# Altium integrated library TI Power Management Special Function.IntLib: 97 symbols (part 4 of 7)
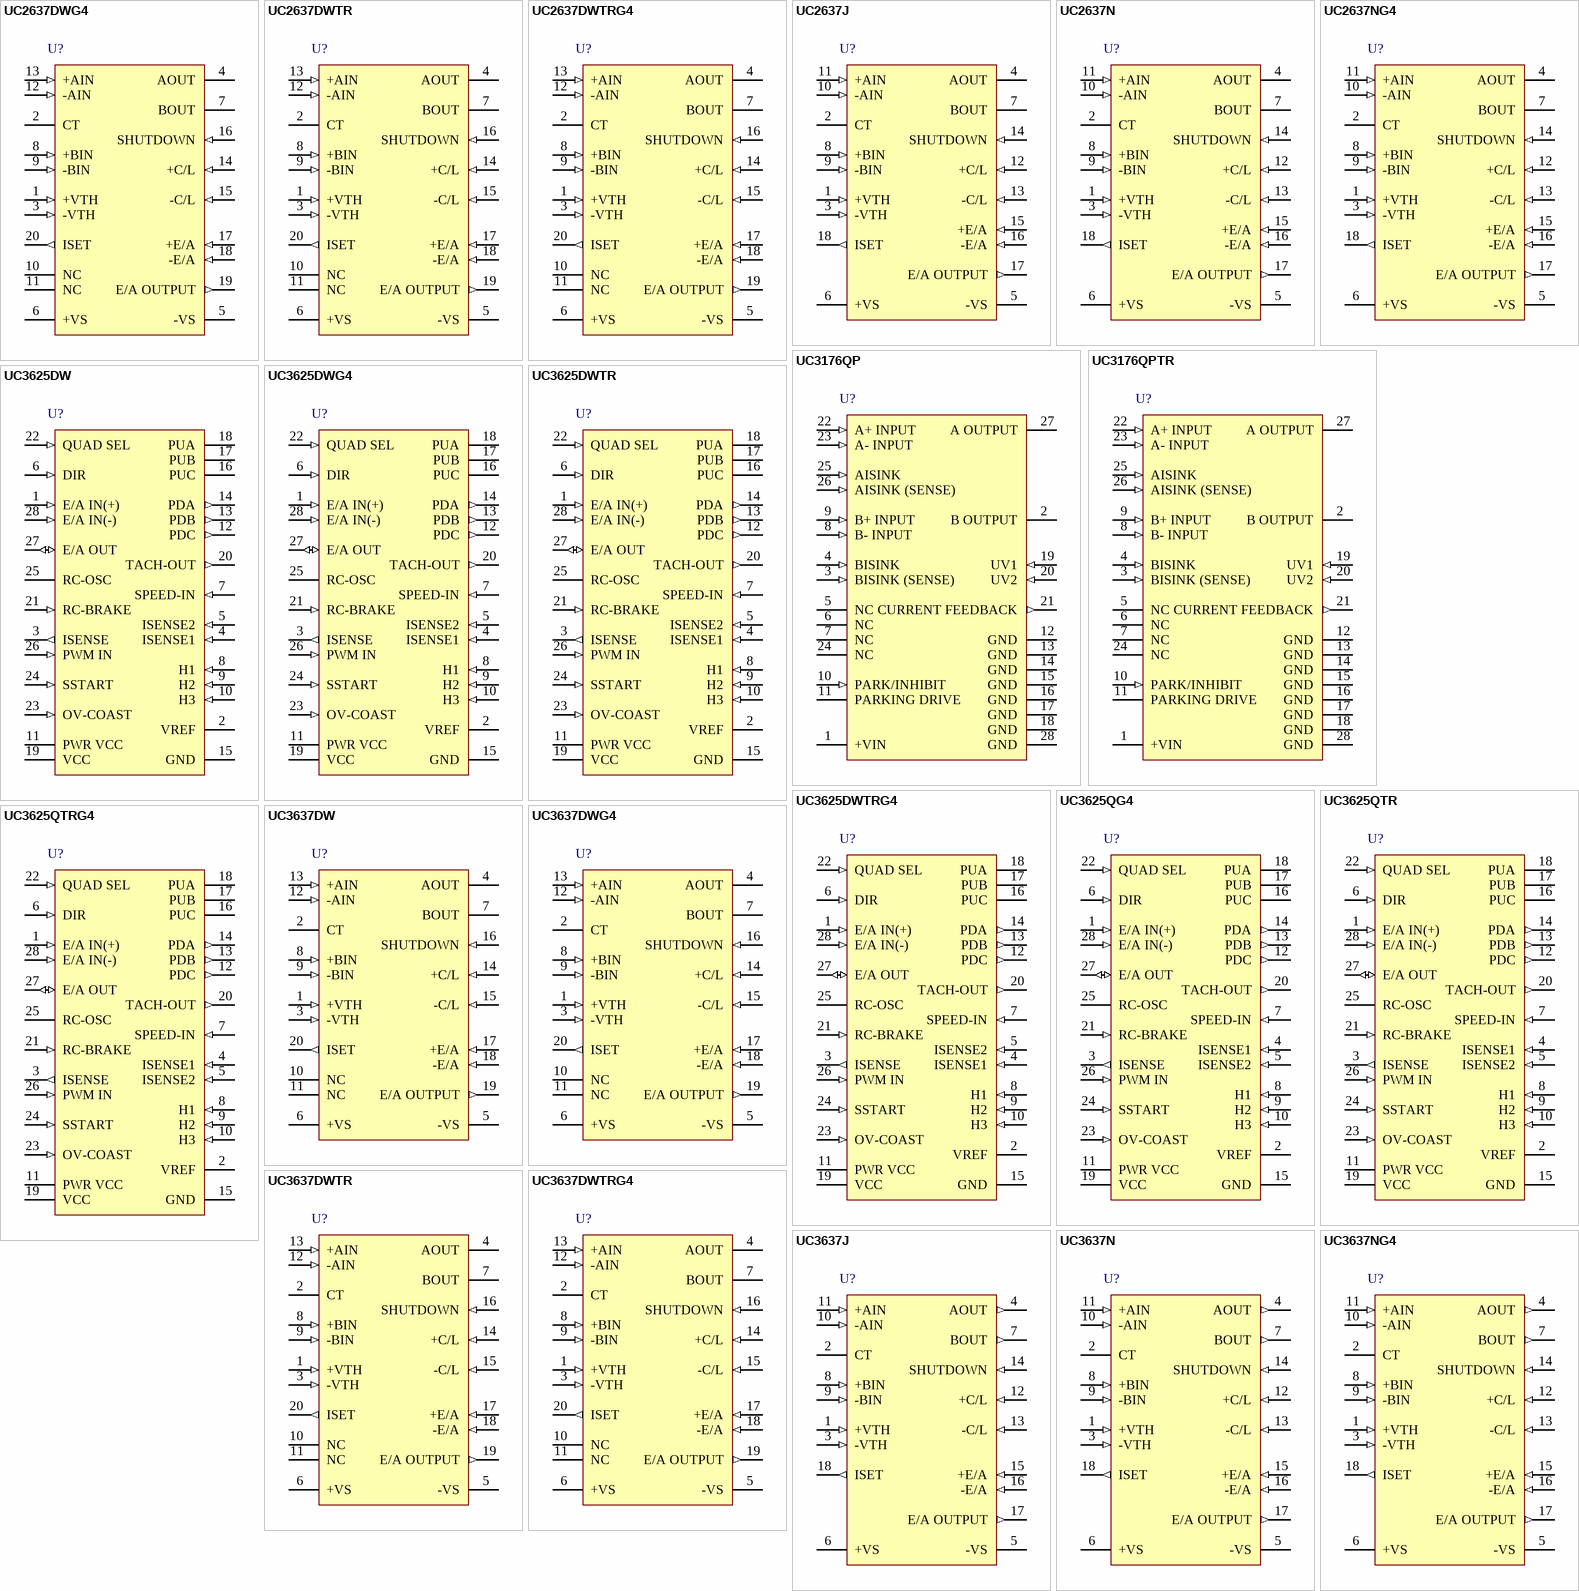
[diagram p6: symbols UC2637DWG4 to UC3637NG4]

## UC3625QTRG4
designator U?
Brushless DC Motor Controller, 10 to 18 V Operating Supply, 0 to 70 degC, 28-pin PLCC (FN), Green (RoHS & no Sb/Br); Manufacturer: Texas Instruments; PartNumber: UC3625QTRG4; Brushless DC Motor Control: TRUE; Operating Supply Current(mA): 14.5; Operating Supply(Max)(V): 18; Operating Supply(Min)(V): 10; Peak Output Current(A): 0.5; SubFamily: Motion/Motor Control; DatasheetVersion: SLUS353B; PackageVersion: revB, Mar-1995; PackageReference: FN28; PackageDescription: 28-Pin Plastic J-Leaded Chip Carrier, 1.27 mm Pitch; Supplier 1: Digi-Key; Supplier Part Number 1: UC3625QTRG4-ND; Supplier 2: Newark; Supplier Part Number 2: 79R8635; Supplier 3: Mouser; Supplier Part Number 3: 595-UC3625QTRG4; Current-Limited: TRUE; Diff Curr Sense Amp: TRUE; Eco-Plan: Green (RoHS & no Sb/Br); Switching Control: TRUE; Tachometer: TRUE; Mounting Technology: Surface Mount; Code_JEDEC: MS-018; ComponentLink1Description: Datasheet; ComponentLink1URL: http://www.ti.com/general/docs/lit/getliterature.tsp?genericPartNumber=UC3625&fileType=pdf
footprint FN28_N (Leaded Chip Carrier, 28-Leads, Body 11.5x11.5mm, Pitch 1.27mm, IPC Medium Density)
footprint FN28_L (Leaded Chip Carrier, 28-Leads, Body 11.5x11.5mm, Pitch 1.27mm, IPC High Density)
footprint FN28_M (Leaded Chip Carrier, 28-Leads, Body 11.5x11.5mm, Pitch 1.27mm, IPC Low Density)
pins: 1 E/A IN(+) (in) "E/A IN(+) and E/A IN(-) are not internally committed to allow for a wide variety of uses. They can be connected to the ISENSE, to TACH-OUT through a filter, to an external command voltage, to a D/A converter for computer (See Datasheet)", 2 VREF (power) "This pin provides regulated 5 V for driving Hall-effect devices and speed control circuitry. VREF reachs 5 V before VCC enables, ensuring that Hall-effect devices  powered from VREF becomes active before the UC3625 drives (See Datasheet)", 3 ISENSE (out) "The current sense amplifier has a fixed gain of approximately two. It also has a built-in level shift of approximately 2.5 V. The signal appearing on ISENSE is: ISENSE = 2.5 V + (2 x ABS ( ISENSE1 - ISENSE2) ) ISENSE1 and (See Datasheet)", 4 ISENSE1 (in) "The current sense amplifier has a fixed gain of approximately two. It also has a built-in level shift of approximately 2.5 V. The signal appearing on ISENSE is: ISENSE = 2.5 V + (2 x ABS ( ISENSE1 - ISENSE2) ) ISENSE1 and (See Datasheet)", 5 ISENSE2 (in) "The current sense amplifier has a fixed gain of approximately two. It also has a built-in level shift of approximately 2.5 V. The signal appearing on ISENSE is: ISENSE = 2.5 V + (2 x ABS ( ISENSE1 - ISENSE2) ) ISENSE1 and (See Datasheet)", 6 DIR (in) "The position decoder logic translates the Hall signals and the DIR signal to the correct driver signals (PUs and PDs). To prevent output stage damage,the signal on DIR is first loaded into a direction latch, then shifted (See Datasheet)", 7 SPEED-IN (in) "The position decoder logic translates the Hall signals and the DIR signal to the correct driver signals (PUs and PDs). To prevent output stage damage,the signal on DIR is first loaded into a direction latch, then shifted (See Datasheet)", 8 H1 (in) "The three shaft position sensor inputs consist of hysteresis comparators with input pull-up resistors. Logic thresholds meet TTL specifications and can be driven by 5-V CMOS, 12-V CMOS, NMOS, or open-collectors. Connect (See Datasheet)", 9 H2 (in) "The three shaft position sensor inputs consist of hysteresis comparators with input pull-up resistors. Logic thresholds meet TTL specifications and can be driven by 5-V CMOS, 12-V CMOS, NMOS, or open-collectors. Connect (See Datasheet)", 10 H3 (in) "The three shaft position sensor inputs consist of hysteresis comparators with input pull-up resistors. Logic thresholds meet TTL specifications and can be driven by 5-V CMOS, 12-V CMOS, NMOS, or open-collectors. Connect (See Datasheet)", 11 PWR VCC (power) "This supply pin carries the current sourced by the PD outputs. When connecting PD outputs directly to the bases of power Darlingtons, the PWR VCC pin can be current limited with a resistor. Darlington outputs can also be (See Datasheet)", 12 PDC (out) "These outputs can drive the gates of N-channel power MOSFETs directly or they can drive the bases of power Darlingtons if some form of current limiting is used. They are meant to drive low-side power devices in high-current (See Datasheet)", 13 PDB (out) "These outputs can drive the gates of N-channel power MOSFETs directly or they can drive the bases of power Darlingtons if some form of current limiting is used. They are meant to drive low-side power devices in high-current (See Datasheet)", 14 PDA (out) "These outputs can drive the gates of N-channel power MOSFETs directly or they can drive the bases of power Darlingtons if some form of current limiting is used. They are meant to drive low-side power devices in high-current (See Datasheet)", 15 GND (power) "All thresholds and outputs are referred to the GND pin except for the PD and PU outputs.", 16 PUC (oc) "These outputs are open-collector, high-voltage drivers that are meant to drive high-side power devices in high-current output stages.These are active low outputs, meaning that these outputs pull low to command a high-side (See Datasheet)", 17 PUB (oc) "These outputs are open-collector, high-voltage drivers that are meant to drive high-side power devices in high-current output stages.These are active low outputs, meaning that these outputs pull low to command a high-side (See Datasheet)", 18 PUA (oc) "These outputs are open-collector, high-voltage drivers that are meant to drive high-side power devices in high-current output stages.These are active low outputs, meaning that these outputs pull low to command a high-side (See Datasheet)", 19 VCC (power) "This device operates with supplies between 10 V and 18 V. Under-voltage lockout keeps all outputs off below 7.5 V, insuring that the output transistors never turn on until full drive capability is available. Bypass VCC to (See Datasheet)", 20 TACH-OUT (out) "Any change in the H1, H2, or H3 inputs loads data from these inputs into the position sensor latches. At the same time data is loaded, a fixed-width 5-V pulse is triggered on TACH-OUT. The average value of the voltage on (See Datasheet)", 21 RC-BRAKE (in) "Each time the TACH-OUT pulses, the capacitor tied to RC-BRAKE discharges from approximately 3.33 V down to 1.67 V through a resistor. The tachometer pulse width is approximately T = 0.67 RT CT, where RT and CT are a resistor (See Datasheet)", 22 QUAD SEL (in) "The device can chop power devices in either of two modes, referred to as "two-quadrant" (Quad Sellow) and "four quadrant" (Quad Sel high). When two-quadrant chopping, the pull-down power devices are chopped by the output of (See Datasheet)", 23 OV-COAST (in) "This input can be used as an over-voltage shut-down input, as a coast input, or both. This input can be driven by TTL, 5-V CMOS, or 12-V CMOS.", 24 SSTART (in) "Any time that VCC drops below threshold or the sensed current exceeds the over-current threshold, the soft-start latch is set. When set, it turns on a transistor that pulls down on SSTART. Normally, a capacitor is connected (See Datasheet)", 25 RC-OSC "The UC3625 can regulate motor current using fixed-frequency pulse width modulation (PWM). The RC-OSC pin sets oscillator frequency by means of timing resistor ROSC from the RC-OSC pin to VREF and capacitor COSC from RC-OSC (See Datasheet)", 26 PWM IN (in) "E/A IN(+) and E/A IN(-) are not internally committed to allow for a wide variety of uses. They can be connected to the ISENSE, to TACH-OUT through a filter, to an external command voltage, to a D/A converter for computer (See Datasheet)", 27 E/A OUT (io) "E/A IN(+) and E/A IN(-) are not internally committed to allow for a wide variety of uses. They can be connected to the ISENSE, to TACH-OUT through a filter, to an external command voltage, to a D/A converter for computer (See Datasheet)", 28 E/A IN(-) (in) "E/A IN(+) and E/A IN(-) are not internally committed to allow for a wide variety of uses. They can be connected to the ISENSE, to TACH-OUT through a filter, to an external command voltage, to a D/A converter for computer (See Datasheet)"

## UC3637DW
designator U?
Switched Mode Controller for DC Motor Drive, 36 V Operating Supply, 0 to 70 degC, 20-pin SOIC (DW), Green (RoHS & no Sb/Br); Manufacturer: Texas Instruments; PartNumber: UC3637DW; Current-Limited: TRUE; Operating Supply Current(mA): 8.5; Operating Supply(Max)(V): 36; Operating Supply(Min)(V): 5; Peak Output Current(A): 0.4; SubFamily: Motion/Motor Control; DatasheetVersion: SLUS283; PackageVersion: revG, Jan-2011; PackageReference: DW20; PackageDescription: 20-Pin Plastic Small Outline Integrated Circuit, 12.8 x 7.5 mm, Pitch 1.27 mm Pitch; Supplier 1: Digi-Key; Supplier Part Number 1: 296-2508-5-ND; Supplier 2: Farnell; Supplier Part Number 2: 1212378; Supplier 3: Newark; Supplier Part Number 3: 77C3168; Supplier 4: Mouser; Supplier Part Number 4: 595-UC3637DW; DC Motor Control: TRUE; Eco-Plan: Green (RoHS & no Sb/Br); Switching Control: TRUE; Mounting Technology: Surface Mount; Code_JEDEC: MS-013-AC; ComponentLink1Description: Datasheet; ComponentLink1URL: http://www.ti.com/general/docs/lit/getliterature.tsp?genericPartNumber=UC3637&fileType=pdf
footprint DW20_N (SOIC, 20-Leads, Body 12.8x7.5mm, Pitch 1.27mm, IPC Medium Density)
footprint DW20_L (SOIC, 20-Leads, Body 12.8x7.5mm, Pitch 1.27mm, IPC High Density)
footprint DW20_M (SOIC, 20-Leads, Body 12.8x7.5mm, Pitch 1.27mm, IPC Low Density)
pins: 1 +VTH (in), 2 CT, 3 -VTH (in), 4 AOUT (power), 5 -VS (power), 6 +VS (power), 7 BOUT (power), 8 +BIN (in), 9 -BIN (in), 10 NC, 11 NC, 12 -AIN (in), 13 +AIN (in), 14 +C/L (in), 15 -C/L (in), 16 SHUTDOWN (in), 17 +E/A (in), 18 -E/A (in), 19 E/A OUTPUT (out), 20 ISET (out)

## UC3637DWG4
designator U?
Switched Mode Controller for DC Motor Drive, 36 V Operating Supply, 0 to 70 degC, 20-pin SOIC (DW), Green (RoHS & no Sb/Br); Manufacturer: Texas Instruments; PartNumber: UC3637DWG4; Current-Limited: TRUE; Operating Supply Current(mA): 8.5; Operating Supply(Max)(V): 36; Operating Supply(Min)(V): 5; Peak Output Current(A): 0.4; SubFamily: Motion/Motor Control; DatasheetVersion: SLUS283; PackageVersion: revG, Jan-2011; PackageReference: DW20; PackageDescription: 20-Pin Plastic Small Outline Integrated Circuit, 12.8 x 7.5 mm, Pitch 1.27 mm Pitch; Supplier 1: Digi-Key; Supplier Part Number 1: UC3637DWG4-ND; Supplier 2: Newark; Supplier Part Number 2: 04M0335; Supplier 3: Mouser; Supplier Part Number 3: 595-UC3637DWG4; DC Motor Control: TRUE; Eco-Plan: Green (RoHS & no Sb/Br); Switching Control: TRUE; Mounting Technology: Surface Mount; Code_JEDEC: MS-013-AC; ComponentLink1Description: Datasheet; ComponentLink1URL: http://www.ti.com/general/docs/lit/getliterature.tsp?genericPartNumber=UC3637&fileType=pdf
footprint DW20_N (SOIC, 20-Leads, Body 12.8x7.5mm, Pitch 1.27mm, IPC Medium Density)
footprint DW20_L (SOIC, 20-Leads, Body 12.8x7.5mm, Pitch 1.27mm, IPC High Density)
footprint DW20_M (SOIC, 20-Leads, Body 12.8x7.5mm, Pitch 1.27mm, IPC Low Density)
pins: 1 +VTH (in), 2 CT, 3 -VTH (in), 4 AOUT (power), 5 -VS (power), 6 +VS (power), 7 BOUT (power), 8 +BIN (in), 9 -BIN (in), 10 NC, 11 NC, 12 -AIN (in), 13 +AIN (in), 14 +C/L (in), 15 -C/L (in), 16 SHUTDOWN (in), 17 +E/A (in), 18 -E/A (in), 19 E/A OUTPUT (out), 20 ISET (out)

## UC3637DWTR
designator U?
Switched Mode Controller for DC Motor Drive, 36 V Operating Supply, 0 to 70 degC, 20-pin SOIC (DW), Green (RoHS & no Sb/Br); Manufacturer: Texas Instruments; PartNumber: UC3637DWTR; Current-Limited: TRUE; Operating Supply Current(mA): 8.5; Operating Supply(Max)(V): 36; Operating Supply(Min)(V): 5; Peak Output Current(A): 0.4; SubFamily: Motion/Motor Control; DatasheetVersion: SLUS283; PackageVersion: revG, Jan-2011; PackageReference: DW20; PackageDescription: 20-Pin Plastic Small Outline Integrated Circuit, 12.8 x 7.5 mm, Pitch 1.27 mm Pitch; Supplier 1: Digi-Key; Supplier Part Number 1: UC3637DWTR-ND; Supplier 2: Newark; Supplier Part Number 2: 77C3169; Supplier 3: Mouser; Supplier Part Number 3: 595-UC3637DWTR; DC Motor Control: TRUE; Eco-Plan: Green (RoHS & no Sb/Br); Switching Control: TRUE; Mounting Technology: Surface Mount; Code_JEDEC: MS-013-AC; ComponentLink1Description: Datasheet; ComponentLink1URL: http://www.ti.com/general/docs/lit/getliterature.tsp?genericPartNumber=UC3637&fileType=pdf
footprint DW20_N (SOIC, 20-Leads, Body 12.8x7.5mm, Pitch 1.27mm, IPC Medium Density)
footprint DW20_L (SOIC, 20-Leads, Body 12.8x7.5mm, Pitch 1.27mm, IPC High Density)
footprint DW20_M (SOIC, 20-Leads, Body 12.8x7.5mm, Pitch 1.27mm, IPC Low Density)
pins: 1 +VTH (in), 2 CT, 3 -VTH (in), 4 AOUT (power), 5 -VS (power), 6 +VS (power), 7 BOUT (power), 8 +BIN (in), 9 -BIN (in), 10 NC, 11 NC, 12 -AIN (in), 13 +AIN (in), 14 +C/L (in), 15 -C/L (in), 16 SHUTDOWN (in), 17 +E/A (in), 18 -E/A (in), 19 E/A OUTPUT (out), 20 ISET (out)

## UC3637DWTRG4
designator U?
Switched Mode Controller for DC Motor Drive, 36 V Operating Supply, 0 to 70 degC, 20-pin SOIC (DW), Green (RoHS & no Sb/Br); Manufacturer: Texas Instruments; PartNumber: UC3637DWTRG4; Current-Limited: TRUE; Operating Supply Current(mA): 8.5; Operating Supply(Max)(V): 36; Operating Supply(Min)(V): 5; Peak Output Current(A): 0.4; SubFamily: Motion/Motor Control; DatasheetVersion: SLUS283; PackageVersion: revG, Jan-2011; PackageReference: DW20; PackageDescription: 20-Pin Plastic Small Outline Integrated Circuit, 12.8 x 7.5 mm, Pitch 1.27 mm Pitch; Supplier 1: Digi-Key; Supplier Part Number 1: UC3637DWTRG4-ND; Supplier 2: Newark; Supplier Part Number 2: 67K8824; Supplier 3: Mouser; Supplier Part Number 3: 595-UC3637DWTRG4; DC Motor Control: TRUE; Eco-Plan: Green (RoHS & no Sb/Br); Switching Control: TRUE; Mounting Technology: Surface Mount; Code_JEDEC: MS-013-AC; ComponentLink1Description: Datasheet; ComponentLink1URL: http://www.ti.com/general/docs/lit/getliterature.tsp?genericPartNumber=UC3637&fileType=pdf
footprint DW20_N (SOIC, 20-Leads, Body 12.8x7.5mm, Pitch 1.27mm, IPC Medium Density)
footprint DW20_L (SOIC, 20-Leads, Body 12.8x7.5mm, Pitch 1.27mm, IPC High Density)
footprint DW20_M (SOIC, 20-Leads, Body 12.8x7.5mm, Pitch 1.27mm, IPC Low Density)
pins: 1 +VTH (in), 2 CT, 3 -VTH (in), 4 AOUT (power), 5 -VS (power), 6 +VS (power), 7 BOUT (power), 8 +BIN (in), 9 -BIN (in), 10 NC, 11 NC, 12 -AIN (in), 13 +AIN (in), 14 +C/L (in), 15 -C/L (in), 16 SHUTDOWN (in), 17 +E/A (in), 18 -E/A (in), 19 E/A OUTPUT (out), 20 ISET (out)

## UC3637J
designator U?
Switched Mode Controller for DC Motor Drive, 36 V Operating Supply, 0 to 70 degC, 18-pin CDIP (J); Manufacturer: Texas Instruments; PartNumber: UC3637J; Current-Limited: TRUE; Eco-Plan: TBD; Operating Supply Current(mA): 8.5; Operating Supply(Max)(V): 36; Operating Supply(Min)(V): 5; Peak Output Current(A): 0.4; SubFamily: Motion/Motor Control; DatasheetVersion: SLUS283; PackageVersion: revF, Mar-2003; PackageReference: J18; PackageDescription: 18-Pin, Ceramic Dual In-Line Package, Row Spacing 7.62 mm, Pitch 2.54 mm; DC Motor Control: TRUE; Switching Control: TRUE; Mounting Technology: Through Hole; ComponentLink1Description: Datasheet; ComponentLink1URL: http://www.ti.com/general/docs/lit/getliterature.tsp?genericPartNumber=UC3637M&fileType=pdf
footprint J18 (DIP, 18-Leads, Row Spacing 7.62mm, Pitch 2.54mm, Body 24.1x6.7mm)
pins: 1 +VTH (in), 2 CT, 3 -VTH (in), 4 AOUT (out), 5 -VS (power), 6 +VS (power), 7 BOUT (out), 8 +BIN (in), 9 -BIN (in), 10 -AIN (in), 11 +AIN (in), 12 +C/L (in), 13 -C/L (in), 14 SHUTDOWN (in), 15 +E/A (in), 16 -E/A (in), 17 E/A OUTPUT (out), 18 ISET (out)

## UC3637N
designator U?
Switched Mode Controller for DC Motor Drive, 36 V Operating Supply, 0 to 70 degC, 18-pin PDIP (N), Green (RoHS & no Sb/Br); Manufacturer: Texas Instruments; PartNumber: UC3637N; Current-Limited: TRUE; Operating Supply Current(mA): 8.5; Operating Supply(Max)(V): 36; Operating Supply(Min)(V): 5; Peak Output Current(A): 0.4; SubFamily: Motion/Motor Control; DatasheetVersion: SLUS283; PackageVersion: revE, Dec-2002; PackageReference: N18; PackageDescription: 18-Pin Plastic Dual-In-Line Package, Row Spacing 7.62 mm, Pitch 2.54 mm; Supplier 1: Digi-Key; Supplier Part Number 1: 296-11237-5-ND; Supplier 2: Farnell; Supplier Part Number 2: 1101443; Supplier 3: Newark; Supplier Part Number 3: 62K3473; Supplier 4: Mouser; Supplier Part Number 4: 595-UC3637N; DC Motor Control: TRUE; Eco-Plan: Green (RoHS & no Sb/Br); Switching Control: TRUE; Mounting Technology: Through Hole; Code_JEDEC: MS-001-AC*; ComponentLink1Description: Datasheet; ComponentLink1URL: http://www.ti.com/general/docs/lit/getliterature.tsp?genericPartNumber=UC3637&fileType=pdf
footprint N18 (DIP, 18-Leads, Row Spacing 7.62mm, Pitch 2.54mm, Body 22.5x6.4mm)
pins: 1 +VTH (in), 2 CT, 3 -VTH (in), 4 AOUT (out), 5 -VS (power), 6 +VS (power), 7 BOUT (out), 8 +BIN (in), 9 -BIN (in), 10 -AIN (in), 11 +AIN (in), 12 +C/L (in), 13 -C/L (in), 14 SHUTDOWN (in), 15 +E/A (in), 16 -E/A (in), 17 E/A OUTPUT (out), 18 ISET (out)

## UC3637NG4
designator U?
Switched Mode Controller for DC Motor Drive, 36 V Operating Supply, 0 to 70 degC, 18-pin PDIP (N), Green (RoHS & no Sb/Br); Manufacturer: Texas Instruments; PartNumber: UC3637NG4; Current-Limited: TRUE; Operating Supply Current(mA): 8.5; Operating Supply(Max)(V): 36; Operating Supply(Min)(V): 5; Peak Output Current(A): 0.4; SubFamily: Motion/Motor Control; DatasheetVersion: SLUS283; PackageVersion: revE, Dec-2002; PackageReference: N18; PackageDescription: 18-Pin Plastic Dual-In-Line Package, Row Spacing 7.62 mm, Pitch 2.54 mm; Supplier 1: Digi-Key; Supplier Part Number 1: UC3637NG4-ND; Supplier 2: Newark; Supplier Part Number 2: 58K7119; Supplier 3: Mouser; Supplier Part Number 3: 595-UC3637NG4; DC Motor Control: TRUE; Eco-Plan: Green (RoHS & no Sb/Br); Switching Control: TRUE; Mounting Technology: Through Hole; Code_JEDEC: MS-001-AC*; ComponentLink1Description: Datasheet; ComponentLink1URL: http://www.ti.com/general/docs/lit/getliterature.tsp?genericPartNumber=UC3637&fileType=pdf
footprint N18 (DIP, 18-Leads, Row Spacing 7.62mm, Pitch 2.54mm, Body 22.5x6.4mm)
pins: 1 +VTH (in), 2 CT, 3 -VTH (in), 4 AOUT (out), 5 -VS (power), 6 +VS (power), 7 BOUT (out), 8 +BIN (in), 9 -BIN (in), 10 -AIN (in), 11 +AIN (in), 12 +C/L (in), 13 -C/L (in), 14 SHUTDOWN (in), 15 +E/A (in), 16 -E/A (in), 17 E/A OUTPUT (out), 18 ISET (out)

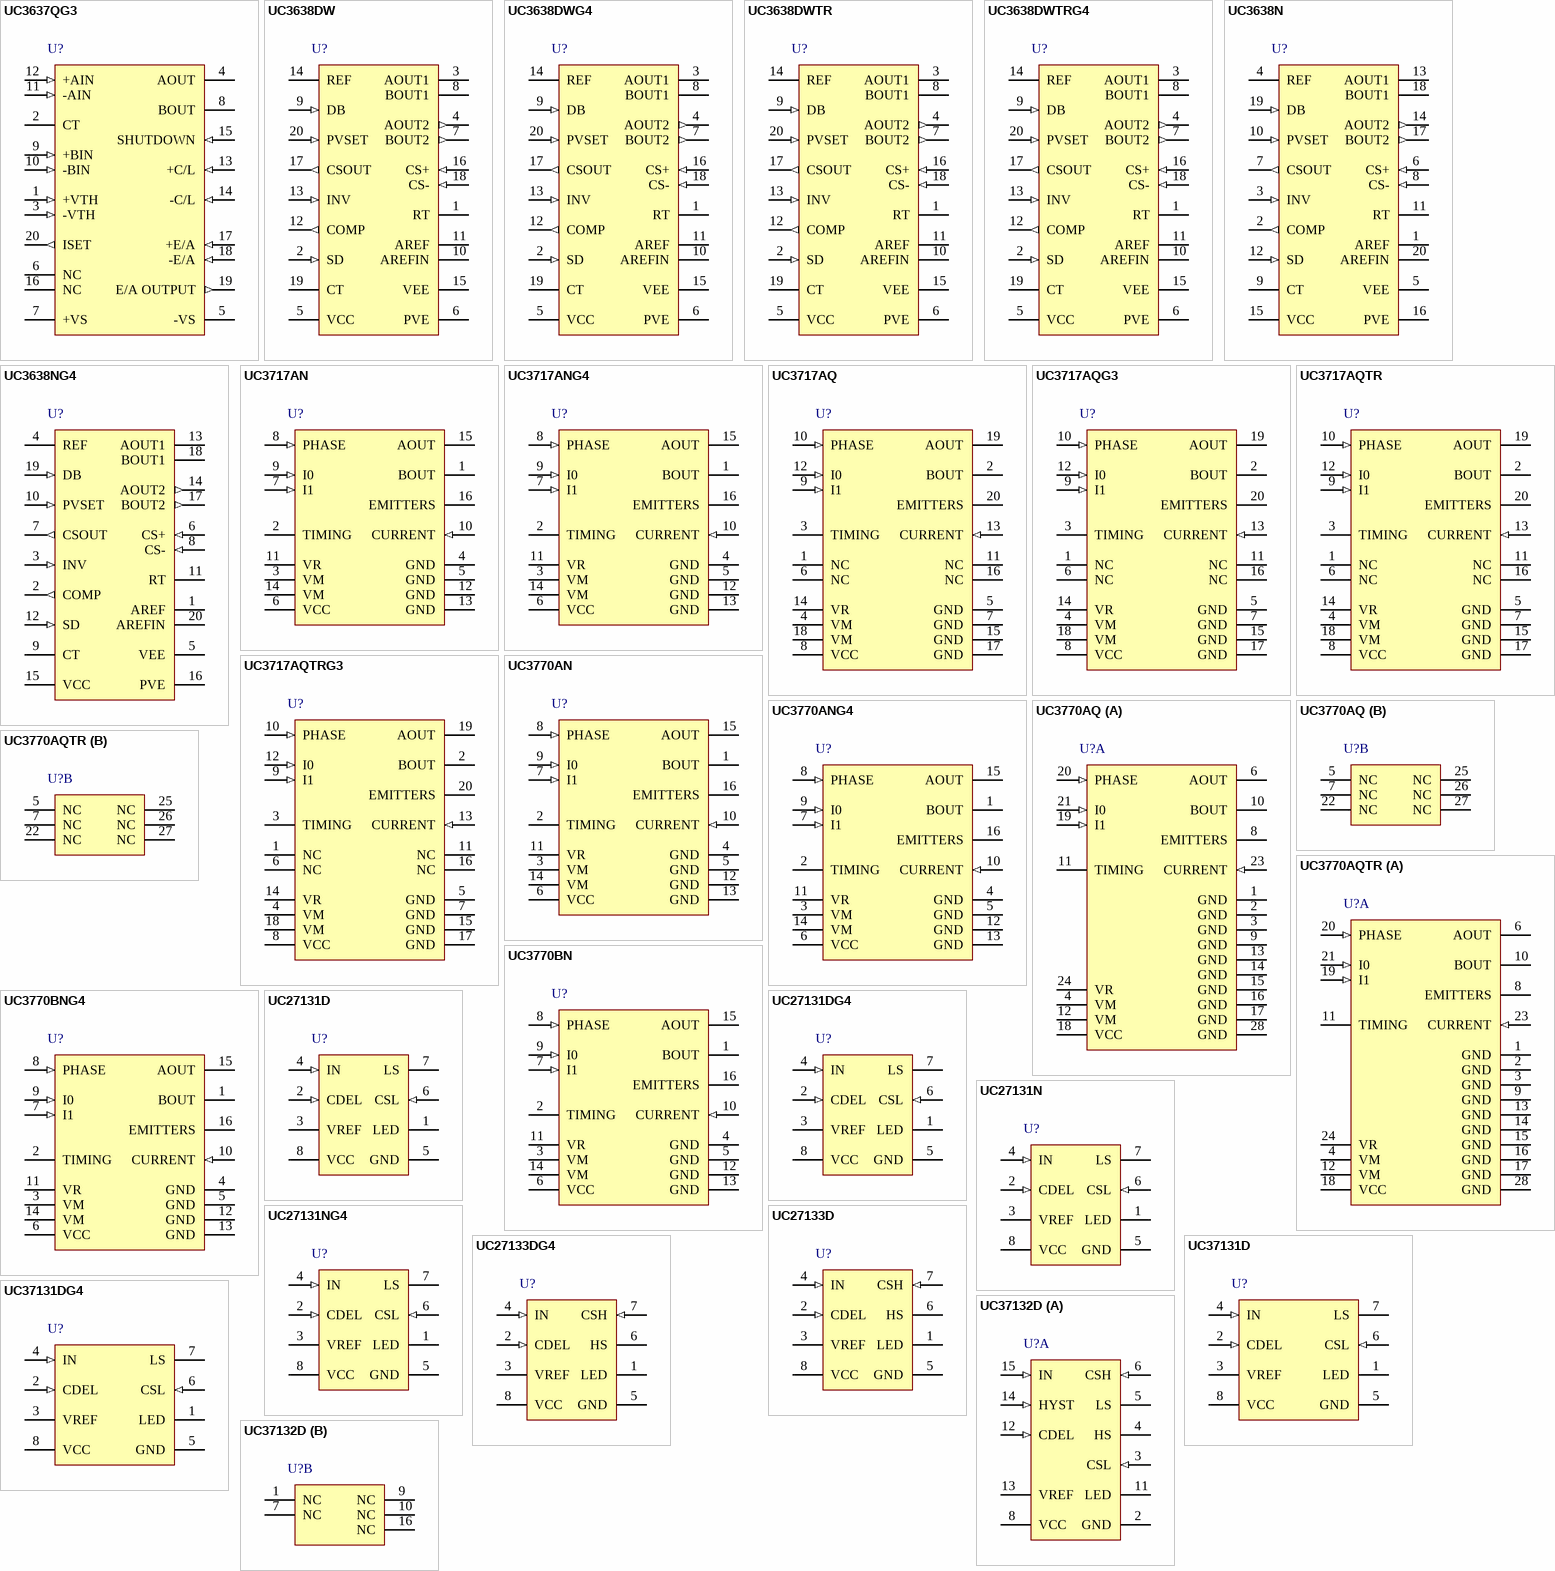
[diagram p2: symbols UC3637QG3 to UC37132D]

## UC3637QG3
designator U?
Switched Mode Controller for DC Motor Drive, 36 V Operating Supply, 0 to 70 degC, 20-pin PLCC (FN), Green (RoHS & no Sb/Br); Manufacturer: Texas Instruments; PartNumber: UC3637QG3; Current-Limited: TRUE; Operating Supply Current(mA): 8.5; Operating Supply(Max)(V): 36; Operating Supply(Min)(V): 5; Peak Output Current(A): 0.4; SubFamily: Motion/Motor Control; DatasheetVersion: SLUS283; PackageVersion: revB, Mar-1995; PackageReference: FN20; PackageDescription: 20-Pin Plastic Leaded Chip Carrier, 1.27 mm Pitch; Supplier 1: Digi-Key; Supplier Part Number 1: UC3637QG3-ND; Supplier 2: Newark; Supplier Part Number 2: 70K6000; Supplier 3: Mouser; Supplier Part Number 3: 595-UC3637QG3; DC Motor Control: TRUE; Eco-Plan: Green (RoHS & no Sb/Br); Switching Control: TRUE; Mounting Technology: Surface Mount; Code_JEDEC: MS-018; ComponentLink1Description: Datasheet; ComponentLink1URL: http://www.ti.com/general/docs/lit/getliterature.tsp?genericPartNumber=UC3637&fileType=pdf
footprint FN20_N (Leaded Chip Carrier, 20-Leads, Body 9x9mm, Pitch 1.27mm, IPC Medium Density)
footprint FN20_L (Leaded Chip Carrier, 20-Leads, Body 9x9mm, Pitch 1.27mm, IPC High Density)
footprint FN20_M (Leaded Chip Carrier, 20-Leads, Body 9x9mm, Pitch 1.27mm, IPC Low Density)
pins: 1 +VTH (in), 2 CT, 3 -VTH (in), 4 AOUT (power), 5 -VS (power), 6 NC, 7 +VS (power), 8 BOUT (power), 9 +BIN (in), 10 -BIN (in), 11 -AIN (in), 12 +AIN (in), 13 +C/L (in), 14 -C/L (in), 15 SHUTDOWN (in), 16 NC, 17 +E/A (in), 18 -E/A (in), 19 E/A OUTPUT (out), 20 ISET (out)

## UC3638DW
designator U?
Advanced PWM Motor Controller, 36 V Operating Supply, 0 to 70 degC, 20-pin SOIC (DW), Green (RoHS & no Sb/Br); Manufacturer: Texas Instruments; PartNumber: UC3638DW; Current-Limited: TRUE; Operating Supply Current(mA): 15; Operating Supply(Max)(V): 36; Operating Supply(Min)(V): 10; Peak Output Current(A): 0.4; SubFamily: Motion/Motor Control; DatasheetVersion: SLUS290B; PackageVersion: revG, Jan-2011; PackageReference: DW20; PackageDescription: 20-Pin Plastic Small Outline Integrated Circuit, 12.8 x 7.5 mm, Pitch 1.27 mm Pitch; Supplier 1: Digi-Key; Supplier Part Number 1: 296-2509-5-ND; Supplier 2: Newark; Supplier Part Number 2: 74K4007; Supplier 3: Mouser; Supplier Part Number 3: 595-UC3638DW; DC Motor Control: TRUE; Diff Curr Sense Amp: TRUE; Eco-Plan: Green (RoHS & no Sb/Br); Switching Control: TRUE; Mounting Technology: Surface Mount; Code_JEDEC: MS-013-AC; ComponentLink1Description: Datasheet; ComponentLink1URL: http://www.ti.com/general/docs/lit/getliterature.tsp?genericPartNumber=UC3638&fileType=pdf
footprint DW20_N (SOIC, 20-Leads, Body 12.8x7.5mm, Pitch 1.27mm, IPC Medium Density)
footprint DW20_L (SOIC, 20-Leads, Body 12.8x7.5mm, Pitch 1.27mm, IPC High Density)
footprint DW20_M (SOIC, 20-Leads, Body 12.8x7.5mm, Pitch 1.27mm, IPC Low Density)
pins: 1 RT "A single resistor from RT to VEE sets the charging and discharging currents for the triangle oscillator.", 2 SD (in) "A voltage on SD within 2.5V (typical) of VCC will cause the UC3638 to enter a UVLO condition which disables all of the driver outputs.", 3 AOUT1 (oc) "Analog output A", 4 AOUT2 (out) "Analog output A", 5 VCC (power) "positive supply rail for the IC.", 6 PVE (power) "This is high current ground for the IC.", 7 BOUT2 (out) "Analog output B", 8 BOUT1 (oc) "Analog output B", 9 DB (in) "This high impedance input programs output pulse tran deadtime.", 10 AREFIN (power) "The voltage on AREFIN is generate internally by a 50% voltage divider tied between VCC and VEE.", 11 AREF (power) "The voltage on AREF is simply a buffered version of the voltage AREFIN.", 12 COMP (out) "This is the output of the high slew rate error amplifier.", 13 INV (in) "This is the inverting input to the voltage amplifer.", 14 REF (power) "REF is the output of the precision reference.", 15 VEE (power) "All voltages are measured with respect to this pin.", 16 CS+ (in) "This is the non-inverting input to the X5 current sense amplifer.", 17 CSOUT (out) "This is the output of the X5 current sense amplifer.", 18 CS- (in) "This is inverting input to the X5 current sense amplifer.", 19 CT "A capacitor from CT to VEE will set the triangle oscillator frequency according to the following equation.", 20 PVSET (in) "A DC voltage on PVSET programs the upper and lower thresholds for the oscillator by the folliwing relationship."

## UC3638DWG4
designator U?
Advanced PWM Motor Controller, 36 V Operating Supply, 0 to 70 degC, 20-pin SOIC (DW), Green (RoHS & no Sb/Br); Manufacturer: Texas Instruments; PartNumber: UC3638DWG4; Current-Limited: TRUE; Operating Supply Current(mA): 15; Operating Supply(Max)(V): 36; Operating Supply(Min)(V): 10; Peak Output Current(A): 0.4; SubFamily: Motion/Motor Control; DatasheetVersion: SLUS290B; PackageVersion: revG, Jan-2011; PackageReference: DW20; PackageDescription: 20-Pin Plastic Small Outline Integrated Circuit, 12.8 x 7.5 mm, Pitch 1.27 mm Pitch; Supplier 1: Digi-Key; Supplier Part Number 1: UC3638DWG4-ND; Supplier 2: Farnell; Supplier Part Number 2: 1207379; Supplier 3: Newark; Supplier Part Number 3: 24M8888; Supplier 4: Newark; Supplier Part Number 4: 54K2310; Supplier 5: Mouser; Supplier Part Number 5: 595-UC3638DWG4; DC Motor Control: TRUE; Diff Curr Sense Amp: TRUE; Eco-Plan: Green (RoHS & no Sb/Br); Switching Control: TRUE; Mounting Technology: Surface Mount; Code_JEDEC: MS-013-AC; ComponentLink1Description: Datasheet; ComponentLink1URL: http://www.ti.com/general/docs/lit/getliterature.tsp?genericPartNumber=UC3638&fileType=pdf
footprint DW20_N (SOIC, 20-Leads, Body 12.8x7.5mm, Pitch 1.27mm, IPC Medium Density)
footprint DW20_L (SOIC, 20-Leads, Body 12.8x7.5mm, Pitch 1.27mm, IPC High Density)
footprint DW20_M (SOIC, 20-Leads, Body 12.8x7.5mm, Pitch 1.27mm, IPC Low Density)
pins: 1 RT "A single resistor from RT to VEE sets the charging and discharging currents for the triangle oscillator.", 2 SD (in) "A voltage on SD within 2.5V (typical) of VCC will cause the UC3638 to enter a UVLO condition which disables all of the driver outputs.", 3 AOUT1 (oc) "Analog output A", 4 AOUT2 (out) "Analog output A", 5 VCC (power) "positive supply rail for the IC.", 6 PVE (power) "This is high current ground for the IC.", 7 BOUT2 (out) "Analog output B", 8 BOUT1 (oc) "Analog output B", 9 DB (in) "This high impedance input programs output pulse tran deadtime.", 10 AREFIN (power) "The voltage on AREFIN is generate internally by a 50% voltage divider tied between VCC and VEE.", 11 AREF (power) "The voltage on AREF is simply a buffered version of the voltage AREFIN.", 12 COMP (out) "This is the output of the high slew rate error amplifier.", 13 INV (in) "This is the inverting input to the voltage amplifer.", 14 REF (power) "REF is the output of the precision reference.", 15 VEE (power) "All voltages are measured with respect to this pin.", 16 CS+ (in) "This is the non-inverting input to the X5 current sense amplifer.", 17 CSOUT (out) "This is the output of the X5 current sense amplifer.", 18 CS- (in) "This is inverting input to the X5 current sense amplifer.", 19 CT "A capacitor from CT to VEE will set the triangle oscillator frequency according to the following equation.", 20 PVSET (in) "A DC voltage on PVSET programs the upper and lower thresholds for the oscillator by the folliwing relationship."

## UC3638DWTR
designator U?
Advanced PWM Motor Controller, 36 V Operating Supply, 0 to 70 degC, 20-pin SOIC (DW), Green (RoHS & no Sb/Br); Manufacturer: Texas Instruments; PartNumber: UC3638DWTR; Current-Limited: TRUE; Operating Supply Current(mA): 15; Operating Supply(Max)(V): 36; Operating Supply(Min)(V): 10; Peak Output Current(A): 0.4; SubFamily: Motion/Motor Control; DatasheetVersion: SLUS290B; PackageVersion: revG, Jan-2011; PackageReference: DW20; PackageDescription: 20-Pin Plastic Small Outline Integrated Circuit, 12.8 x 7.5 mm, Pitch 1.27 mm Pitch; Supplier 1: Digi-Key; Supplier Part Number 1: UC3638DWTR-ND; Supplier 2: Newark; Supplier Part Number 2: 77C3173; Supplier 3: Mouser; Supplier Part Number 3: 595-UC3638DWTR; DC Motor Control: TRUE; Diff Curr Sense Amp: TRUE; Eco-Plan: Green (RoHS & no Sb/Br); Switching Control: TRUE; Mounting Technology: Surface Mount; Code_JEDEC: MS-013-AC; ComponentLink1Description: Datasheet; ComponentLink1URL: http://www.ti.com/general/docs/lit/getliterature.tsp?genericPartNumber=UC3638&fileType=pdf
footprint DW20_N (SOIC, 20-Leads, Body 12.8x7.5mm, Pitch 1.27mm, IPC Medium Density)
footprint DW20_L (SOIC, 20-Leads, Body 12.8x7.5mm, Pitch 1.27mm, IPC High Density)
footprint DW20_M (SOIC, 20-Leads, Body 12.8x7.5mm, Pitch 1.27mm, IPC Low Density)
pins: 1 RT "A single resistor from RT to VEE sets the charging and discharging currents for the triangle oscillator.", 2 SD (in) "A voltage on SD within 2.5V (typical) of VCC will cause the UC3638 to enter a UVLO condition which disables all of the driver outputs.", 3 AOUT1 (oc) "Analog output A", 4 AOUT2 (out) "Analog output A", 5 VCC (power) "positive supply rail for the IC.", 6 PVE (power) "This is high current ground for the IC.", 7 BOUT2 (out) "Analog output B", 8 BOUT1 (oc) "Analog output B", 9 DB (in) "This high impedance input programs output pulse tran deadtime.", 10 AREFIN (power) "The voltage on AREFIN is generate internally by a 50% voltage divider tied between VCC and VEE.", 11 AREF (power) "The voltage on AREF is simply a buffered version of the voltage AREFIN.", 12 COMP (out) "This is the output of the high slew rate error amplifier.", 13 INV (in) "This is the inverting input to the voltage amplifer.", 14 REF (power) "REF is the output of the precision reference.", 15 VEE (power) "All voltages are measured with respect to this pin.", 16 CS+ (in) "This is the non-inverting input to the X5 current sense amplifer.", 17 CSOUT (out) "This is the output of the X5 current sense amplifer.", 18 CS- (in) "This is inverting input to the X5 current sense amplifer.", 19 CT "A capacitor from CT to VEE will set the triangle oscillator frequency according to the following equation.", 20 PVSET (in) "A DC voltage on PVSET programs the upper and lower thresholds for the oscillator by the folliwing relationship."

## UC3638DWTRG4
designator U?
Advanced PWM Motor Controller, 36 V Operating Supply, 0 to 70 degC, 20-pin SOIC (DW), Green (RoHS & no Sb/Br); Manufacturer: Texas Instruments; PartNumber: UC3638DWTRG4; Current-Limited: TRUE; Operating Supply Current(mA): 15; Operating Supply(Max)(V): 36; Operating Supply(Min)(V): 10; Peak Output Current(A): 0.4; SubFamily: Motion/Motor Control; DatasheetVersion: SLUS290B; PackageVersion: revG, Jan-2011; PackageReference: DW20; PackageDescription: 20-Pin Plastic Small Outline Integrated Circuit, 12.8 x 7.5 mm, Pitch 1.27 mm Pitch; Supplier 1: Digi-Key; Supplier Part Number 1: UC3638DWTRG4-ND; Supplier 2: Newark; Supplier Part Number 2: 54K2311; Supplier 3: Mouser; Supplier Part Number 3: 595-UC3638DWTRG4; DC Motor Control: TRUE; Diff Curr Sense Amp: TRUE; Eco-Plan: Green (RoHS & no Sb/Br); Switching Control: TRUE; Mounting Technology: Surface Mount; Code_JEDEC: MS-013-AC; ComponentLink1Description: Datasheet; ComponentLink1URL: http://www.ti.com/general/docs/lit/getliterature.tsp?genericPartNumber=UC3638&fileType=pdf
footprint DW20_N (SOIC, 20-Leads, Body 12.8x7.5mm, Pitch 1.27mm, IPC Medium Density)
footprint DW20_L (SOIC, 20-Leads, Body 12.8x7.5mm, Pitch 1.27mm, IPC High Density)
footprint DW20_M (SOIC, 20-Leads, Body 12.8x7.5mm, Pitch 1.27mm, IPC Low Density)
pins: 1 RT "A single resistor from RT to VEE sets the charging and discharging currents for the triangle oscillator.", 2 SD (in) "A voltage on SD within 2.5V (typical) of VCC will cause the UC3638 to enter a UVLO condition which disables all of the driver outputs.", 3 AOUT1 (oc) "Analog output A", 4 AOUT2 (out) "Analog output A", 5 VCC (power) "positive supply rail for the IC.", 6 PVE (power) "This is high current ground for the IC.", 7 BOUT2 (out) "Analog output B", 8 BOUT1 (oc) "Analog output B", 9 DB (in) "This high impedance input programs output pulse tran deadtime.", 10 AREFIN (power) "The voltage on AREFIN is generate internally by a 50% voltage divider tied between VCC and VEE.", 11 AREF (power) "The voltage on AREF is simply a buffered version of the voltage AREFIN.", 12 COMP (out) "This is the output of the high slew rate error amplifier.", 13 INV (in) "This is the inverting input to the voltage amplifer.", 14 REF (power) "REF is the output of the precision reference.", 15 VEE (power) "All voltages are measured with respect to this pin.", 16 CS+ (in) "This is the non-inverting input to the X5 current sense amplifer.", 17 CSOUT (out) "This is the output of the X5 current sense amplifer.", 18 CS- (in) "This is inverting input to the X5 current sense amplifer.", 19 CT "A capacitor from CT to VEE will set the triangle oscillator frequency according to the following equation.", 20 PVSET (in) "A DC voltage on PVSET programs the upper and lower thresholds for the oscillator by the folliwing relationship."

## UC3638N
designator U?
Advanced PWM Motor Controller, 36 V Operating Supply, 0 to 70 degC, 20-pin PDIP (N), Green (RoHS & no Sb/Br); Manufacturer: Texas Instruments; PartNumber: UC3638N; Current-Limited: TRUE; Operating Supply Current(mA): 15; Operating Supply(Max)(V): 36; Operating Supply(Min)(V): 10; Peak Output Current(A): 0.4; SubFamily: Motion/Motor Control; DatasheetVersion: SLUS290B; PackageVersion: revE, Dec-2002; PackageReference: N20; PackageDescription: 20-Pin Plastic Dual-In-Line Package, Row Spacing 7.62 mm, Pitch 2.54 mm; Supplier 1: Digi-Key; Supplier Part Number 1: 296-11238-5-ND; Supplier 2: Newark; Supplier Part Number 2: 22C5651; Supplier 3: Mouser; Supplier Part Number 3: 595-UC3638N; DC Motor Control: TRUE; Diff Curr Sense Amp: TRUE; Eco-Plan: Green (RoHS & no Sb/Br); Switching Control: TRUE; Mounting Technology: Through Hole; Code_JEDEC: MS-001-AC*; ComponentLink1Description: Datasheet; ComponentLink1URL: http://www.ti.com/general/docs/lit/getliterature.tsp?genericPartNumber=UC3638&fileType=pdf
footprint N20 (DIP, 20-Leads, Row Spacing 7.62mm, Pitch 2.54mm, Body 25.4x6.4mm)
pins: 1 AREF (power) "The voltage on AREF is simply a buffered version of the voltage AREFIN.", 2 COMP (out) "This is the output of the high slew rate error amplifier.", 3 INV (in) "This is the inverting input to the voltage amplifer.", 4 REF (power) "REF is the output of the precision reference.", 5 VEE (power) "All voltages are measured with respect to this pin.", 6 CS+ (in) "This is the non-inverting input to the X5 current sense amplifer.", 7 CSOUT (out) "This is the output of the X5 current sense amplifer.", 8 CS- (in) "This is inverting input to the X5 current sense amplifer.", 9 CT "A capacitor from CT to VEE will set the triangle oscillator frequency according to the following equation.", 10 PVSET (in) "A DC voltage on PVSET programs the upper and lower thresholds for the oscillator by the folliwing relationship.", 11 RT "A single resistor from RT to VEE sets the charging and discharging currents for the triangle oscillator.", 12 SD (in) "A voltage on SD within 2.5V (typical) of VCC will cause the UC3638 to enter a UVLO condition which disables all of the driver outputs.", 13 AOUT1 (oc) "Analog output A.", 14 AOUT2 (out) "Analog output A.", 15 VCC (power) "positive supply rail for the IC.", 16 PVE (power) "This is high current ground for the IC.", 17 BOUT2 (out) "Analog output B.", 18 BOUT1 (oc) "Analog output B.", 19 DB (in) "This high impedance input programs output pulse tran deadtime.", 20 AREFIN (power) "The voltage on AREFIN is generate internally by a 50% voltage divider tied between VCC and VEE."

## UC3638NG4
designator U?
Advanced PWM Motor Controller, 36 V Operating Supply, 0 to 70 degC, 20-pin PDIP (N), Green (RoHS & no Sb/Br); Manufacturer: Texas Instruments; PartNumber: UC3638NG4; Current-Limited: TRUE; Operating Supply Current(mA): 15; Operating Supply(Max)(V): 36; Operating Supply(Min)(V): 10; Peak Output Current(A): 0.4; SubFamily: Motion/Motor Control; DatasheetVersion: SLUS290B; PackageVersion: revE, Dec-2002; PackageReference: N20; PackageDescription: 20-Pin Plastic Dual-In-Line Package, Row Spacing 7.62 mm, Pitch 2.54 mm; Supplier 1: Digi-Key; Supplier Part Number 1: UC3638NG4-ND; Supplier 2: Farnell; Supplier Part Number 2: 1207380; Supplier 3: Newark; Supplier Part Number 3: 24M8889; Supplier 4: Newark; Supplier Part Number 4: 66K4917; Supplier 5: Mouser; Supplier Part Number 5: 595-UC3638NG4; DC Motor Control: TRUE; Diff Curr Sense Amp: TRUE; Eco-Plan: Green (RoHS & no Sb/Br); Switching Control: TRUE; Mounting Technology: Through Hole; Code_JEDEC: MS-001-AC*; ComponentLink1Description: Datasheet; ComponentLink1URL: http://www.ti.com/general/docs/lit/getliterature.tsp?genericPartNumber=UC3638&fileType=pdf
footprint N20 (DIP, 20-Leads, Row Spacing 7.62mm, Pitch 2.54mm, Body 25.4x6.4mm)
pins: 1 AREF (power) "The voltage on AREF is simply a buffered version of the voltage AREFIN.", 2 COMP (out) "This is the output of the high slew rate error amplifier.", 3 INV (in) "This is the inverting input to the voltage amplifer.", 4 REF (power) "REF is the output of the precision reference.", 5 VEE (power) "All voltages are measured with respect to this pin.", 6 CS+ (in) "This is the non-inverting input to the X5 current sense amplifer.", 7 CSOUT (out) "This is the output of the X5 current sense amplifer.", 8 CS- (in) "This is inverting input to the X5 current sense amplifer.", 9 CT "A capacitor from CT to VEE will set the triangle oscillator frequency according to the following equation.", 10 PVSET (in) "A DC voltage on PVSET programs the upper and lower thresholds for the oscillator by the folliwing relationship.", 11 RT "A single resistor from RT to VEE sets the charging and discharging currents for the triangle oscillator.", 12 SD (in) "A voltage on SD within 2.5V (typical) of VCC will cause the UC3638 to enter a UVLO condition which disables all of the driver outputs.", 13 AOUT1 (oc) "Analog output A.", 14 AOUT2 (out) "Analog output A.", 15 VCC (power) "positive supply rail for the IC.", 16 PVE (power) "This is high current ground for the IC.", 17 BOUT2 (out) "Analog output B.", 18 BOUT1 (oc) "Analog output B.", 19 DB (in) "This high impedance input programs output pulse tran deadtime.", 20 AREFIN (power) "The voltage on AREFIN is generate internally by a 50% voltage divider tied between VCC and VEE."

## UC3717AN
designator U?
Stepper Motor Drive Circuit, 46 V Operating Supply, 0 to 70 degC, 16-pin PDIP (N), Green (RoHS & no Sb/Br); Manufacturer: Texas Instruments; PartNumber: UC3717AN; Current-Limited: TRUE; Operating Supply Current(mA): 7; Operating Supply(Max)(V): 46; Operating Supply(Min)(V): 10; Peak Output Current(A): 1; SubFamily: Motion/Motor Control; DatasheetVersion: SLUS369; PackageVersion: revE, Dec-2002; PackageReference: N16; PackageDescription: 16-Pin Plastic Dual-In-Line Package, Row Spacing 7.62 mm, Pitch 2.54 mm; Supplier 1: Digi-Key; Supplier Part Number 1: 296-11258-5-ND; Supplier 2: Newark; Supplier Part Number 2: 77C3215; Supplier 3: Mouser; Supplier Part Number 3: 595-UC3717AN; Eco-Plan: Green (RoHS & no Sb/Br); Stepper Motor Controllers: TRUE; Switching Control: TRUE; Thermal Shutdown: TRUE; Mounting Technology: Through Hole; Code_JEDEC: MS-001*; ComponentLink1Description: Datasheet; ComponentLink1URL: http://www.ti.com/general/docs/lit/getliterature.tsp?genericPartNumber=UC3717A&fileType=pdf
footprint N16 (DIP, 16-Leads, Row Spacing 7.62mm, Pitch 2.54mm, Body 19.3x6.4mm)
pins: 1 BOUT (power), 2 TIMING, 3 VM (power), 4 GND (power), 5 GND (power), 6 VCC (power), 7 I1 (in), 8 PHASE (in), 9 I0 (in), 10 CURRENT (in), 11 VR (power), 12 GND (power), 13 GND (power), 14 VM (power), 15 AOUT (power), 16 EMITTERS (oe)

## UC3717ANG4
designator U?
Stepper Motor Drive Circuit, 46 V Operating Supply, 0 to 70 degC, 16-pin PDIP (N), Green (RoHS & no Sb/Br); Manufacturer: Texas Instruments; PartNumber: UC3717ANG4; Current-Limited: TRUE; Operating Supply Current(mA): 7; Operating Supply(Max)(V): 46; Operating Supply(Min)(V): 10; Peak Output Current(A): 1; SubFamily: Motion/Motor Control; DatasheetVersion: SLUS369; PackageVersion: revE, Dec-2002; PackageReference: N16; PackageDescription: 16-Pin Plastic Dual-In-Line Package, Row Spacing 7.62 mm, Pitch 2.54 mm; Supplier 1: Digi-Key; Supplier Part Number 1: UC3717ANG4-ND; Supplier 2: Farnell; Supplier Part Number 2: 1207383; Supplier 3: Newark; Supplier Part Number 3: 24M8892; Supplier 4: Newark; Supplier Part Number 4: 58K7124; Supplier 5: Mouser; Supplier Part Number 5: 595-UC3717ANG4; Eco-Plan: Green (RoHS & no Sb/Br); Stepper Motor Controllers: TRUE; Switching Control: TRUE; Thermal Shutdown: TRUE; Mounting Technology: Through Hole; Code_JEDEC: MS-001*; ComponentLink1Description: Datasheet; ComponentLink1URL: http://www.ti.com/general/docs/lit/getliterature.tsp?genericPartNumber=UC3717A&fileType=pdf
footprint N16 (DIP, 16-Leads, Row Spacing 7.62mm, Pitch 2.54mm, Body 19.3x6.4mm)
pins: 1 BOUT (power), 2 TIMING, 3 VM (power), 4 GND (power), 5 GND (power), 6 VCC (power), 7 I1 (in), 8 PHASE (in), 9 I0 (in), 10 CURRENT (in), 11 VR (power), 12 GND (power), 13 GND (power), 14 VM (power), 15 AOUT (power), 16 EMITTERS (oe)

## UC3717AQ
designator U?
Stepper Motor Drive Circuit, 46 V Operating Supply, 0 to 70 degC, 20-pin PLCC (FN), Green (RoHS & no Sb/Br); Manufacturer: Texas Instruments; PartNumber: UC3717AQ; Current-Limited: TRUE; Operating Supply Current(mA): 7; Operating Supply(Max)(V): 46; Operating Supply(Min)(V): 10; Peak Output Current(A): 1; SubFamily: Motion/Motor Control; DatasheetVersion: SLUS369; PackageVersion: revB, Mar-1995; PackageReference: FN20; PackageDescription: 20-Pin Plastic Leaded Chip Carrier, 1.27 mm Pitch; Supplier 1: Digi-Key; Supplier Part Number 1: UC3717AQ-ND; Supplier 2: Newark; Supplier Part Number 2: 77C3216; Supplier 3: Mouser; Supplier Part Number 3: 595-UC3717AQ; Eco-Plan: Green (RoHS & no Sb/Br); Stepper Motor Controllers: TRUE; Switching Control: TRUE; Thermal Shutdown: TRUE; Mounting Technology: Surface Mount; Code_JEDEC: MS-018; ComponentLink1Description: Datasheet; ComponentLink1URL: http://www.ti.com/general/docs/lit/getliterature.tsp?genericPartNumber=UC3717A&fileType=pdf
footprint FN20_N (Leaded Chip Carrier, 20-Leads, Body 9x9mm, Pitch 1.27mm, IPC Medium Density)
footprint FN20_L (Leaded Chip Carrier, 20-Leads, Body 9x9mm, Pitch 1.27mm, IPC High Density)
footprint FN20_M (Leaded Chip Carrier, 20-Leads, Body 9x9mm, Pitch 1.27mm, IPC Low Density)
pins: 1 NC, 2 BOUT (power), 3 TIMING, 4 VM (power), 5 GND (power), 6 NC, 7 GND (power), 8 VCC (power), 9 I1 (in), 10 PHASE (in), 11 NC, 12 I0 (in), 13 CURRENT (in), 14 VR (power), 15 GND (power), 16 NC, 17 GND (power), 18 VM (power), 19 AOUT (power), 20 EMITTERS (oe)

## UC3717AQG3
designator U?
Stepper Motor Drive Circuit, 46 V Operating Supply, 0 to 70 degC, 20-pin PLCC (FN), Green (RoHS & no Sb/Br); Manufacturer: Texas Instruments; PartNumber: UC3717AQG3; Current-Limited: TRUE; Operating Supply Current(mA): 7; Operating Supply(Max)(V): 46; Operating Supply(Min)(V): 10; Peak Output Current(A): 1; SubFamily: Motion/Motor Control; DatasheetVersion: SLUS369; PackageVersion: revB, Mar-1995; PackageReference: FN20; PackageDescription: 20-Pin Plastic Leaded Chip Carrier, 1.27 mm Pitch; Supplier 1: Digi-Key; Supplier Part Number 1: UC3717AQG3-ND; Supplier 2: Newark; Supplier Part Number 2: 99K4489; Supplier 3: Mouser; Supplier Part Number 3: 595-UC3717AQG3; Eco-Plan: Green (RoHS & no Sb/Br); Stepper Motor Controllers: TRUE; Switching Control: TRUE; Thermal Shutdown: TRUE; Mounting Technology: Surface Mount; Code_JEDEC: MS-018; ComponentLink1Description: Datasheet; ComponentLink1URL: http://www.ti.com/general/docs/lit/getliterature.tsp?genericPartNumber=UC3717A&fileType=pdf
footprint FN20_N (Leaded Chip Carrier, 20-Leads, Body 9x9mm, Pitch 1.27mm, IPC Medium Density)
footprint FN20_L (Leaded Chip Carrier, 20-Leads, Body 9x9mm, Pitch 1.27mm, IPC High Density)
footprint FN20_M (Leaded Chip Carrier, 20-Leads, Body 9x9mm, Pitch 1.27mm, IPC Low Density)
pins: 1 NC, 2 BOUT (power), 3 TIMING, 4 VM (power), 5 GND (power), 6 NC, 7 GND (power), 8 VCC (power), 9 I1 (in), 10 PHASE (in), 11 NC, 12 I0 (in), 13 CURRENT (in), 14 VR (power), 15 GND (power), 16 NC, 17 GND (power), 18 VM (power), 19 AOUT (power), 20 EMITTERS (oe)

## UC3717AQTR
designator U?
Stepper Motor Drive Circuit, 46 V Operating Supply, 0 to 70 degC, 20-pin PLCC (FN), Green (RoHS & no Sb/Br); Manufacturer: Texas Instruments; PartNumber: UC3717AQTR; Current-Limited: TRUE; Operating Supply Current(mA): 7; Operating Supply(Max)(V): 46; Operating Supply(Min)(V): 10; Peak Output Current(A): 1; SubFamily: Motion/Motor Control; DatasheetVersion: SLUS369; PackageVersion: revB, Mar-1995; PackageReference: FN20; PackageDescription: 20-Pin Plastic Leaded Chip Carrier, 1.27 mm Pitch; Supplier 1: Digi-Key; Supplier Part Number 1: UC3717AQTR-ND; Supplier 2: Newark; Supplier Part Number 2: 77C3217; Supplier 3: Mouser; Supplier Part Number 3: 595-UC3717AQTR; Eco-Plan: Green (RoHS & no Sb/Br); Stepper Motor Controllers: TRUE; Switching Control: TRUE; Thermal Shutdown: TRUE; Mounting Technology: Surface Mount; Code_JEDEC: MS-018; ComponentLink1Description: Datasheet; ComponentLink1URL: http://www.ti.com/general/docs/lit/getliterature.tsp?genericPartNumber=UC3717A&fileType=pdf
footprint FN20_N (Leaded Chip Carrier, 20-Leads, Body 9x9mm, Pitch 1.27mm, IPC Medium Density)
footprint FN20_L (Leaded Chip Carrier, 20-Leads, Body 9x9mm, Pitch 1.27mm, IPC High Density)
footprint FN20_M (Leaded Chip Carrier, 20-Leads, Body 9x9mm, Pitch 1.27mm, IPC Low Density)
pins: 1 NC, 2 BOUT (power), 3 TIMING, 4 VM (power), 5 GND (power), 6 NC, 7 GND (power), 8 VCC (power), 9 I1 (in), 10 PHASE (in), 11 NC, 12 I0 (in), 13 CURRENT (in), 14 VR (power), 15 GND (power), 16 NC, 17 GND (power), 18 VM (power), 19 AOUT (power), 20 EMITTERS (oe)

## UC3717AQTRG3
designator U?
Stepper Motor Drive Circuit, 46 V Operating Supply, 0 to 70 degC, 20-pin PLCC (FN), Green (RoHS & no Sb/Br); Manufacturer: Texas Instruments; PartNumber: UC3717AQTRG3; Current-Limited: TRUE; Operating Supply Current(mA): 7; Operating Supply(Max)(V): 46; Operating Supply(Min)(V): 10; Peak Output Current(A): 1; SubFamily: Motion/Motor Control; DatasheetVersion: SLUS369; PackageVersion: revB, Mar-1995; PackageReference: FN20; PackageDescription: 20-Pin Plastic Leaded Chip Carrier, 1.27 mm Pitch; Supplier 1: Digi-Key; Supplier Part Number 1: UC3717AQTRG3-ND; Supplier 2: Newark; Supplier Part Number 2: 70K6004; Supplier 3: Mouser; Supplier Part Number 3: 595-UC3717AQTRG3; Eco-Plan: Green (RoHS & no Sb/Br); Stepper Motor Controllers: TRUE; Switching Control: TRUE; Thermal Shutdown: TRUE; Mounting Technology: Surface Mount; Code_JEDEC: MS-018; ComponentLink1Description: Datasheet; ComponentLink1URL: http://www.ti.com/general/docs/lit/getliterature.tsp?genericPartNumber=UC3717A&fileType=pdf
footprint FN20_N (Leaded Chip Carrier, 20-Leads, Body 9x9mm, Pitch 1.27mm, IPC Medium Density)
footprint FN20_L (Leaded Chip Carrier, 20-Leads, Body 9x9mm, Pitch 1.27mm, IPC High Density)
footprint FN20_M (Leaded Chip Carrier, 20-Leads, Body 9x9mm, Pitch 1.27mm, IPC Low Density)
pins: 1 NC, 2 BOUT (power), 3 TIMING, 4 VM (power), 5 GND (power), 6 NC, 7 GND (power), 8 VCC (power), 9 I1 (in), 10 PHASE (in), 11 NC, 12 I0 (in), 13 CURRENT (in), 14 VR (power), 15 GND (power), 16 NC, 17 GND (power), 18 VM (power), 19 AOUT (power), 20 EMITTERS (oe)

## UC3770AN
designator U?
High Performance Stepper Motor Drive Circuit, 45 V Operating Supply, 0 to 70 degC, 16-pin PDIP (N), Green (RoHS & no Sb/Br); Manufacturer: Texas Instruments; PartNumber: UC3770AN; Current-Limited: TRUE; Operating Supply Current(mA): 33; Operating Supply(Max)(V): 45; Operating Supply(Min)(V): 10; Peak Output Current(A): 1.5; SubFamily: Motion/Motor Control; DatasheetVersion: SLUS403A; PackageVersion: revE, Dec-2002; PackageReference: N16; PackageDescription: 16-Pin Plastic Dual-In-Line Package, Row Spacing 7.62 mm, Pitch 2.54 mm; Supplier 1: Digi-Key; Supplier Part Number 1: 296-11259-5-ND; Supplier 2: Newark; Supplier Part Number 2: 74K4009; Supplier 3: Mouser; Supplier Part Number 3: 595-UC3770AN; Eco-Plan: Green (RoHS & no Sb/Br); Stepper Motor Controllers: TRUE; Switching Control: TRUE; Thermal Shutdown: TRUE; Mounting Technology: Through Hole; Code_JEDEC: MS-001*; ComponentLink1Description: Datasheet; ComponentLink1URL: http://www.ti.com/general/docs/lit/getliterature.tsp?genericPartNumber=UC3770A&fileType=pdf
footprint N16 (DIP, 16-Leads, Row Spacing 7.62mm, Pitch 2.54mm, Body 19.3x6.4mm)
pins: 1 BOUT (power), 2 TIMING, 3 VM (power), 4 GND (power), 5 GND (power), 6 VCC (power), 7 I1 (in), 8 PHASE (in), 9 I0 (in), 10 CURRENT (in), 11 VR (power), 12 GND (power), 13 GND (power), 14 VM (power), 15 AOUT (power), 16 EMITTERS (oe)

## UC3770ANG4
designator U?
High Performance Stepper Motor Drive Circuit, 45 V Operating Supply, 0 to 70 degC, 16-pin PDIP (N), Green (RoHS & no Sb/Br); Manufacturer: Texas Instruments; PartNumber: UC3770ANG4; Current-Limited: TRUE; Operating Supply Current(mA): 33; Operating Supply(Max)(V): 45; Operating Supply(Min)(V): 10; Peak Output Current(A): 1.5; SubFamily: Motion/Motor Control; DatasheetVersion: SLUS403A; PackageVersion: revE, Dec-2002; PackageReference: N16; PackageDescription: 16-Pin Plastic Dual-In-Line Package, Row Spacing 7.62 mm, Pitch 2.54 mm; Supplier 1: Digi-Key; Supplier Part Number 1: UC3770ANG4-ND; Supplier 2: Farnell; Supplier Part Number 2: 1207384; Supplier 3: Newark; Supplier Part Number 3: 24M8893; Supplier 4: Newark; Supplier Part Number 4: 81K4521; Supplier 5: Mouser; Supplier Part Number 5: 595-UC3770ANG4; Eco-Plan: Green (RoHS & no Sb/Br); Stepper Motor Controllers: TRUE; Switching Control: TRUE; Thermal Shutdown: TRUE; Mounting Technology: Through Hole; Code_JEDEC: MS-001*; ComponentLink1Description: Datasheet; ComponentLink1URL: http://www.ti.com/general/docs/lit/getliterature.tsp?genericPartNumber=UC3770A&fileType=pdf
footprint N16 (DIP, 16-Leads, Row Spacing 7.62mm, Pitch 2.54mm, Body 19.3x6.4mm)
pins: 1 BOUT (power), 2 TIMING, 3 VM (power), 4 GND (power), 5 GND (power), 6 VCC (power), 7 I1 (in), 8 PHASE (in), 9 I0 (in), 10 CURRENT (in), 11 VR (power), 12 GND (power), 13 GND (power), 14 VM (power), 15 AOUT (power), 16 EMITTERS (oe)